# Altium footprint library SAMTEC_SMD_HDDR_5x2.PcbLib: 1 footprints
Each footprint in its own frame and in the unit in brackets; x right, y up, seen from the top. Pads: shape width x height; smd on the part's side, far side on the other; paste and mask are expansions set on the pad; w line width, h text height; cw(c..) or ccw(c..) is an arc to the next point about the centre after c.
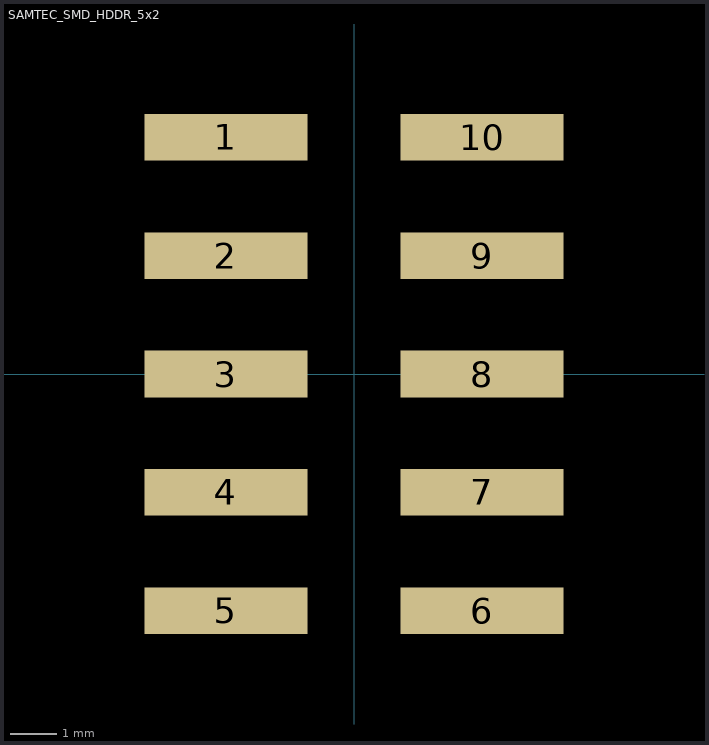
[diagram p0: the footprint, top view; thin cyan lines are the x and y axes]

## SAMTEC_SMD_HDDR_5x2 [mm]
pads (10):
  rect 3.5x1 smd: 1(-2.75,5.08) 2(-2.75,2.54) 3(-2.75,0) 4(-2.75,-2.54) 5(-2.75,-5.08) 6(2.75,-5.08) 7(2.75,-2.54) 8(2.75,0) 9(2.75,2.54) 10(2.75,5.08)
3D body "TSM_105_01_L_DV.SLDPRT": height 9.65, standoff 0, extent -3.848,-6.35 3.848,6.35